# Altium schematic symbol library 653 0xx 114 822.SchLib: 9 symbols
Pins are listed as number, name and electrical type; pins without a type are passive.

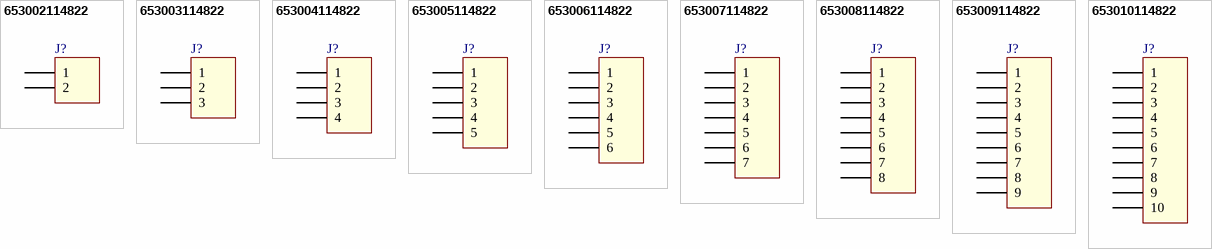
[diagram p0: symbols 653002114822 to 653010114822]

## 653002114822
designator J?
WR-WTB 1.25mm Male Vertical Shrouded Header, 2p; Part Number: 653002114822; Pin Number: 2; ComponentLink1Description: Manufacturer; ComponentLink1URL: http://www.we-online.de; ComponentLink2Description: Datasheet; ComponentLink2URL: http://katalog.we-online.de/em/datasheet/6530xx114822.pdf; Published Date: June 2017; Publisher: Wurth Elektronik; Pitch: 1.25 mm
footprint 653002114822 (1.25mm Male Vertical Shrouded Header, 2p)
pins: 1, 2

## 653003114822
designator J?
WR-WTB 1.25mm Male Vertical Shrouded Header, 3p; Part Number: 653003114822; Pin Number: 3; ComponentLink1Description: Manufacturer; ComponentLink1URL: http://www.we-online.de; ComponentLink2Description: Datasheet; ComponentLink2URL: http://katalog.we-online.de/em/datasheet/6530xx114822.pdf; Published Date: June 2017; Publisher: Wurth Elektronik; Pitch: 1.25 mm
footprint 653003114822 (1.25mm Male Vertical Shrouded Header, 3p)
pins: 1, 2, 3

## 653004114822
designator J?
WR-WTB 1.25mm Male Vertical Shrouded Header, 4p; Part Number: 653004114822; Pin Number: 4; ComponentLink1Description: Manufacturer; ComponentLink1URL: http://www.we-online.de; ComponentLink2Description: Datasheet; ComponentLink2URL: http://katalog.we-online.de/em/datasheet/6530xx114822.pdf; Published Date: June 2017; Publisher: Wurth Elektronik; Pitch: 1.25 mm
footprint 653004114822 (1.25mm Male Vertical Shrouded Header, 4p)
pins: 1, 2, 3, 4

## 653005114822
designator J?
WR-WTB 1.25mm Male Vertical Shrouded Header, 5p; Part Number: 653005114822; Pin Number: 5; ComponentLink1Description: Manufacturer; ComponentLink1URL: http://www.we-online.de; ComponentLink2Description: Datasheet; ComponentLink2URL: http://katalog.we-online.de/em/datasheet/6530xx114822.pdf; Published Date: June 2017; Publisher: Wurth Elektronik; Pitch: 1.25 mm
footprint 653005114822 (1.25mm Male Vertical Shrouded Header, 5p)
pins: 1, 2, 3, 4, 5

## 653006114822
designator J?
WR-WTB 1.25mm Male Vertical Shrouded Header, 6p; Part Number: 653006114822; Pin Number: 6; ComponentLink1Description: Manufacturer; ComponentLink1URL: http://www.we-online.de; ComponentLink2Description: Datasheet; ComponentLink2URL: http://katalog.we-online.de/em/datasheet/6530xx114822.pdf; Published Date: June 2017; Publisher: Wurth Elektronik; Pitch: 1.25 mm
footprint 653006114822 (1.25mm Male Vertical Shrouded Header, 6p)
pins: 1, 2, 3, 4, 5, 6

## 653007114822
designator J?
WR-WTB 1.25mm Male Vertical Shrouded Header, 7p; Part Number: 653007114822; Pin Number: 7; ComponentLink1Description: Manufacturer; ComponentLink1URL: http://www.we-online.de; ComponentLink2Description: Datasheet; ComponentLink2URL: http://katalog.we-online.de/em/datasheet/6530xx114822.pdf; Published Date: June 2017; Publisher: Wurth Elektronik; Pitch: 1.25 mm
footprint 653007114822 (1.25mm Male Vertical Shrouded Header, 7p)
pins: 1, 2, 3, 4, 5, 6, 7

## 653008114822
designator J?
WR-WTB 1.25mm Male Vertical Shrouded Header, 8p; Part Number: 653008114822; Pin Number: 8; ComponentLink1Description: Manufacturer; ComponentLink1URL: http://www.we-online.de; ComponentLink2Description: Datasheet; ComponentLink2URL: http://katalog.we-online.de/em/datasheet/6530xx114822.pdf; Published Date: June 2017; Publisher: Wurth Elektronik; Pitch: 1.25 mm
footprint 653008114822 (1.25mm Male Vertical Shrouded Header, 8p)
pins: 1, 2, 3, 4, 5, 6, 7, 8

## 653009114822
designator J?
WR-WTB 1.25mm Male Vertical Shrouded Header, 9p; Part Number: 653009114822; Pin Number: 9; ComponentLink1Description: Manufacturer; ComponentLink1URL: http://www.we-online.de; ComponentLink2Description: Datasheet; ComponentLink2URL: http://katalog.we-online.de/em/datasheet/6530xx114822.pdf; Published Date: June 2017; Publisher: Wurth Elektronik; Pitch: 1.25 mm
footprint 653009114822 (1.25mm Male Vertical Shrouded Header, 9p)
pins: 1, 2, 3, 4, 5, 6, 7, 8, 9

## 653010114822
designator J?
WR-WTB 1.25mm Male Vertical Shrouded Header, 10p; Part Number: 653010114822; Pin Number: 10; ComponentLink1Description: Manufacturer; ComponentLink1URL: http://www.we-online.de; ComponentLink2Description: Datasheet; ComponentLink2URL: http://katalog.we-online.de/em/datasheet/6530xx114822.pdf; Published Date: June 2017; Publisher: Wurth Elektronik; Pitch: 1.25 mm
footprint 653010114822 (1.25mm Male Vertical Shrouded Header, 10p)
pins: 1, 2, 3, 4, 5, 6, 7, 8, 9, 10